# Altium footprint library myLibrary2.9.PcbLib: 1 footprints
Each footprint in its own frame and in the unit in brackets; x right, y up, seen from the top. Pads: shape width x height; smd on the part's side, far side on the other; paste and mask are expansions set on the pad; w line width, h text height; cw(c..) or ccw(c..) is an arc to the next point about the centre after c.
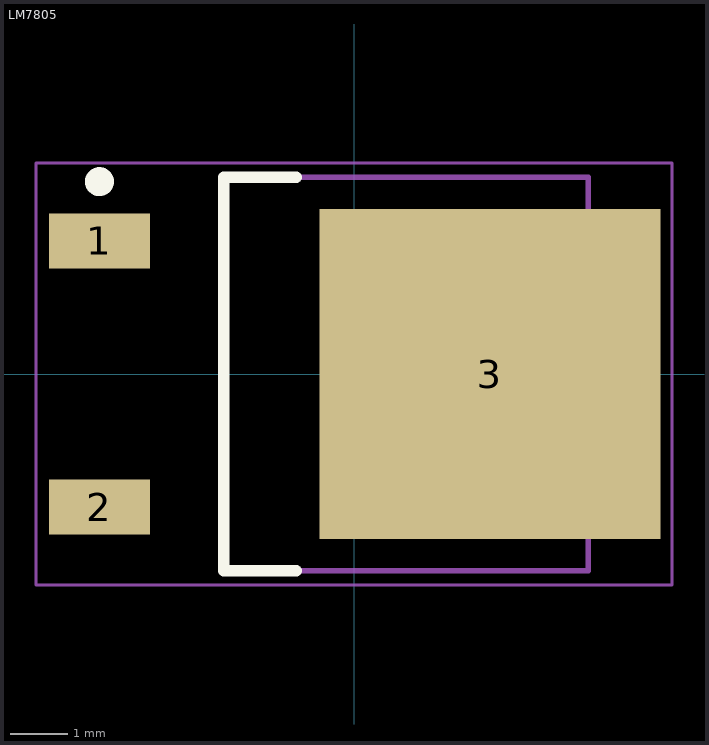
[diagram p0: the footprint, top view; thin cyan lines are the x and y axes]

## LM7805 [mm] "D-PAK, 3-Pads, Body 6.25x6.76mm (max), IPC Medium Density"
height 2.4
pads (3):
  rect 1.75x0.95 smd: 1(-4.4,2.3) 2(-4.4,-2.3)
  rect 5.9x5.7 smd: 3(2.35,0)
Top Overlay:
  circle w0.25: c-4.4,3.325 r0.125
  lines w0.2: -1,-3.4 -2.25,-3.4 -2.25,3.4 -1,3.4
Mechanical 13:
  lines w0.1: -2.25,-3.4 4.05,-3.4 4.05,3.4 -2.25,3.4 -2.25,-3.4
Mechanical 15:
  lines w0.05: -5.5,-3.65 5.5,-3.65 5.5,3.65 -5.5,3.65 -5.5,-3.65
  lines w0.1: -0.5,0 0.5,0 ; 0,-0.5 0,0.5
3D body: height 2.4, standoff 0.4, extent -2.25,-3.4 4.05,3.4